# Altium integrated library Wurth_Elektronik_Passive_rev16a.IntLib: 1143 symbols (part 2 of 28)
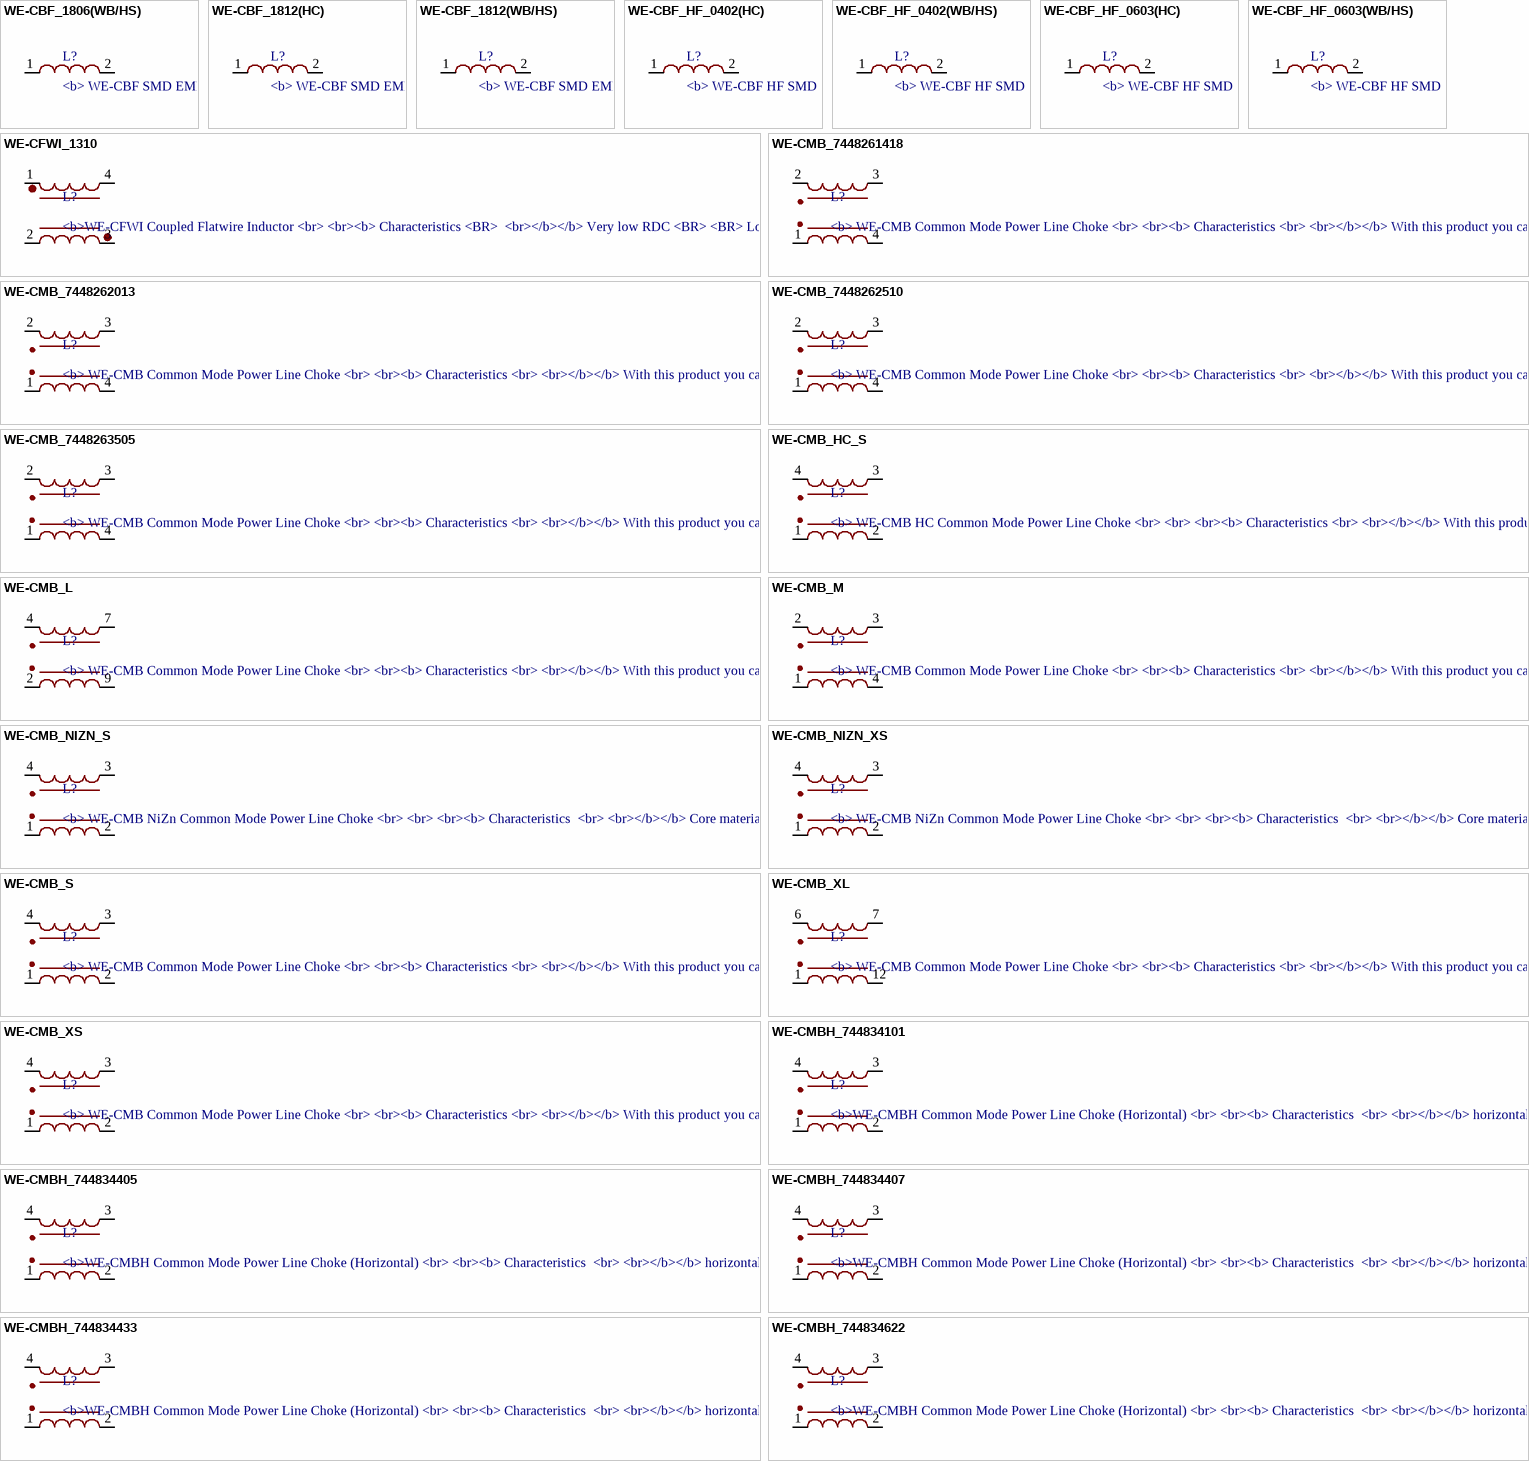
[diagram p59: symbols WE-CBF_1806(WB/HS) to WE-CMBH_744834622]

## WE-CBF_1806(WB/HS)
designator L?, comment <b> WE-CBF SMD EMI Suppression Ferrite Bead / <br> / <br> Characteristics / <br> / <br></b> Reliable Ni-Sn electrodes / <br> / <br> High rated current up to 6 A / <br> / <br> Operating temperature: –55 ºC to +125 ºC / <br> / <br><b> Applications / <br> / <br></b> Perfect as data lined filter and for uncoupling of distribution voltage / <br> / <br><b>Variant abbreviation</b><br> / WB means WIDE BAND<br> / HS means HIGH SPEED<br> / HC means HIGH CURRENT<br> / <br><a href="http://katalog.we-online.de/media/images/eisos/FeCBF_pf2.jpg" title="Enlarge picture"> / <img src="http://katalog.we-online.de/media/thumbs2/eisos/thb_FeCBF_pf2.jpg" width="320"></a><p> / Details see: <a href="http://katalog.we-online.de/en/pbs/WE-CBF">http://katalog.we-online.de/en/pbs/WE-CBF</a><p> / Updated on 2014-06-19<br> / 2014 (C) Wurth Elektronik
footprint WE-CBF_1806(W=5.5)
pins: 1, 2

## WE-CBF_1812(HC)
designator L?, comment <b> WE-CBF SMD EMI Suppression Ferrite Bead / <br> / <br> Characteristics / <br> / <br></b> Reliable Ni-Sn electrodes / <br> / <br> High rated current up to 6 A / <br> / <br> Operating temperature: –55 ºC to +125 ºC / <br> / <br><b> Applications / <br> / <br></b> Perfect as data lined filter and for uncoupling of distribution voltage / <br> / <br><b>Variant abbreviation</b><br> / WB means WIDE BAND<br> / HS means HIGH SPEED<br> / HC means HIGH CURRENT<br> / <br><a href="http://katalog.we-online.de/media/images/eisos/FeCBF_pf2.jpg" title="Enlarge picture"> / <img src="http://katalog.we-online.de/media/thumbs2/eisos/thb_FeCBF_pf2.jpg" width="320"></a><p> / Details see: <a href="http://katalog.we-online.de/en/pbs/WE-CBF">http://katalog.we-online.de/en/pbs/WE-CBF</a><p> / Updated on 2014-06-19<br> / 2014 (C) Wurth Elektronik
footprint WE-CBF_1812(W=7.3)
pins: 1, 2

## WE-CBF_1812(WB/HS)
designator L?, comment <b> WE-CBF SMD EMI Suppression Ferrite Bead / <br> / <br> Characteristics / <br> / <br></b> Reliable Ni-Sn electrodes / <br> / <br> High rated current up to 6 A / <br> / <br> Operating temperature: –55 ºC to +125 ºC / <br> / <br><b> Applications / <br> / <br></b> Perfect as data lined filter and for uncoupling of distribution voltage / <br> / <br><b>Variant abbreviation</b><br> / WB means WIDE BAND<br> / HS means HIGH SPEED<br> / HC means HIGH CURRENT<br> / <br><a href="http://katalog.we-online.de/media/images/eisos/FeCBF_pf2.jpg" title="Enlarge picture"> / <img src="http://katalog.we-online.de/media/thumbs2/eisos/thb_FeCBF_pf2.jpg" width="320"></a><p> / Details see: <a href="http://katalog.we-online.de/en/pbs/WE-CBF">http://katalog.we-online.de/en/pbs/WE-CBF</a><p> / Updated on 2014-06-19<br> / 2014 (C) Wurth Elektronik
footprint WE-CBF_1812(W=6.3)
pins: 1, 2

## WE-CBF_HF_0402(HC)
designator L?, comment <b> WE-CBF HF SMD EMI Suppression Ferrite Bead (High Frequency) / <br> / <br><b> Characteristics / <br></b></b> Available in 3 types / <br> Modified internal layout increases the effective suppression range / <br> The impedance at 1 GHz are at least 3 times higher compared to the WE-CBF product family / <br> Operating temperature: –55 °C to +125 °C / <br> / <br><b> Applications / <br></b> Especially for the suppression of signal lines in the high frequency range / <br> For fast data lines: CPU, highspeed bus systems, HDD / <br> / <br> / <b>Variant abbreviation</b><br> / WB means WIDE BAND<br> / HS means HIGH SPEED<br> / HC means HIGH CURRENT<br> / <br> / <br><a href="http://katalog.we-online.de/media/images/eisos/FeCBF_pf2.jpg" title="Enlarge picture"> / <img src="http://katalog.we-online.de/media/images/eisos/FeCBF_pf2.jpg" width="320"></a><p> / Details see: <a href="http://katalog.we-online.de/en/pbs/WE-CBF_HF?">http://katalog.we-online.de/en/pbs/WE-CBF_HF?</a><p> / Updated on 2015-04-24<br> / 2014 (C) Wurth Elektronik
footprint WE-CBF_HF_0402(W=2.2)
pins: 1, 2

## WE-CBF_HF_0402(WB/HS)
designator L?, comment <b> WE-CBF HF SMD EMI Suppression Ferrite Bead (High Frequency) / <br> / <br><b> Characteristics / <br></b></b> Available in 3 types / <br> Modified internal layout increases the effective suppression range / <br> The impedance at 1 GHz are at least 3 times higher compared to the WE-CBF product family / <br> Operating temperature: –55 °C to +125 °C / <br> / <br><b> Applications / <br></b> Especially for the suppression of signal lines in the high frequency range / <br> For fast data lines: CPU, highspeed bus systems, HDD / <br> / <br> / <b>Variant abbreviation</b><br> / WB means WIDE BAND<br> / HS means HIGH SPEED<br> / HC means HIGH CURRENT<br> / <br> / <br><a href="http://katalog.we-online.de/media/images/eisos/FeCBF_pf2.jpg" title="Enlarge picture"> / <img src="http://katalog.we-online.de/media/images/eisos/FeCBF_pf2.jpg" width="320"></a><p> / Details see: <a href="http://katalog.we-online.de/en/pbs/WE-CBF_HF?">http://katalog.we-online.de/en/pbs/WE-CBF_HF?</a><p> / Updated on 2015-04-24<br> / 2014 (C) Wurth Elektronik
footprint WE-CBF_HF_0402(W=1.5)
pins: 1, 2

## WE-CBF_HF_0603(HC)
designator L?, comment <b> WE-CBF HF SMD EMI Suppression Ferrite Bead (High Frequency) / <br> / <br><b> Characteristics / <br></b></b> Available in 3 types / <br> Modified internal layout increases the effective suppression range / <br> The impedance at 1 GHz are at least 3 times higher compared to the WE-CBF product family / <br> Operating temperature: –55 °C to +125 °C / <br> / <br><b> Applications / <br></b> Especially for the suppression of signal lines in the high frequency range / <br> For fast data lines: CPU, highspeed bus systems, HDD / <br> / <br> / <b>Variant abbreviation</b><br> / WB means WIDE BAND<br> / HS means HIGH SPEED<br> / HC means HIGH CURRENT<br> / <br> / <br><a href="http://katalog.we-online.de/media/images/eisos/FeCBF_pf2.jpg" title="Enlarge picture"> / <img src="http://katalog.we-online.de/media/images/eisos/FeCBF_pf2.jpg" width="320"></a><p> / Details see: <a href="http://katalog.we-online.de/en/pbs/WE-CBF_HF?">http://katalog.we-online.de/en/pbs/WE-CBF_HF?</a><p> / Updated on 2015-04-24<br> / 2014 (C) Wurth Elektronik
footprint WE-CBF_HF_0603(W=2.6)
pins: 1, 2

## WE-CBF_HF_0603(WB/HS)
designator L?, comment <b> WE-CBF HF SMD EMI Suppression Ferrite Bead (High Frequency) / <br> / <br><b> Characteristics / <br></b></b> Available in 3 types / <br> Modified internal layout increases the effective suppression range / <br> The impedance at 1 GHz are at least 3 times higher compared to the WE-CBF product family / <br> Operating temperature: –55 °C to +125 °C / <br> / <br><b> Applications / <br></b> Especially for the suppression of signal lines in the high frequency range / <br> For fast data lines: CPU, highspeed bus systems, HDD / <br> / <br> / <b>Variant abbreviation</b><br> / WB means WIDE BAND<br> / HS means HIGH SPEED<br> / HC means HIGH CURRENT<br> / <br> / <br><a href="http://katalog.we-online.de/media/images/eisos/FeCBF_pf2.jpg" title="Enlarge picture"> / <img src="http://katalog.we-online.de/media/images/eisos/FeCBF_pf2.jpg" width="320"></a><p> / Details see: <a href="http://katalog.we-online.de/en/pbs/WE-CBF_HF?">http://katalog.we-online.de/en/pbs/WE-CBF_HF?</a><p> / Updated on 2015-04-24<br> / 2014 (C) Wurth Elektronik
footprint WE-CBF_HF_0603(W=2.2)
pins: 1, 2

## WE-CFWI_1310
designator L?, comment <b>WE-CFWI Coupled Flatwire Inductor / <br> / <br><b> Characteristics / <BR> / <br></b></b> Very low RDC / <BR> / <BR> Low inductance drift over temperature / <BR> / <BR> Operating temperature: –40 °C up to +150 °C / <BR> / <BR> Coupled inductor with two identical windings / <BR> / <BR> More variants due to parallel and serie connection / <BR> / <br><b> Applications / <BR> / <br></b> High power switching regulators / <BR> / <BR> 1:1 flyback converter / <BR> / <BR> Buck, Boost, Sepic and Cuk Converter / <BR> / <BR> Switching regulators with secondary unregulated output voltage / <BR> / <BR>Battery Cell Charging Balancer / <BR> / <BR> / <br><a href="http://katalog.we-online.de/media/images/eisos/IndCFWI_pf2.jpg" title="Enlarge picture"> / <img src="http://katalog.we-online.de/media/images/eisos/IndCFWI_pf2.jpg" width="320"></a><p> / Details see: <a href="http://katalog.we-online.de/en/pbs/WE-CFWI?">http://katalog.we-online.de/en/pbs/WE-CFWI?</a><p> / updated by  Dan Xu 2014-07-15<br> / 2014 (C) Wurth Elektronik
MANUFACTURER: Würth Elektronik eiSos GmbH; CREATED-BY: Christin Otto; COMPANY-URL: http://we-online.de; CREATED-DATE: August 2013; DATASHEET-URL: http://katalog.we-online.de/de/pbs/WE-CFWI?sid=1d9d32b2a9
footprint WE-CFWI_1310
pins: 1, 2 4, 3, 4 2

## WE-CMB_7448261418
designator L?, comment <b> WE-CMB Common Mode Power Line Choke / <br> / <br><b> Characteristics / <br> / <br></b></b> With this product you can achieve high suppression of asymmetric interferences even at low frequency ranges / <BR> / <BR> Broadband filtering because of low capacitance winding technique / <BR> / <BR> Very compact design / <BR> / <BR> Highest possible current with small sizes / <BR> / <BR> High interference compression asymmetric interference rates also at low frequence range / <BR> / <BR> Custom designs on request / <BR> / <BR> Operating temperature: –40 ºC to +125 ºC / <br> / <BR> / <br><b> Applications / <br> / <br></b> Power electronics / <BR> / <BR> Power line input and output filter / <BR> / <BR> For filtering of devices without a stable ground connection / <BR> / <BR> Radio interference suppression in motors / <BR> / <BR> Suppression of common mode noise / <br> / <br> / <br><a href="http://katalog.we-online.de/media/images/eisos/IndCMB_pf2.jpg"> / <img src="http://katalog.we-online.de/media/images/eisos/IndCMB_pf2.jpg" width="320"></a><p> / Details see: <a href="http://katalog.we-online.de/en/pbs/WE-CMB">http://katalog.we-online.de/en/pbs/WE-CMB?</a><p> / Updated by  Dan Xu 2014-06-30<br> / 2014 (C) Wurth Elektronik
footprint WE-CMB_XXL_7448261418
pins: 1 4, 2 1, 3 2, 4 3

## WE-CMB_7448262013
designator L?, comment <b> WE-CMB Common Mode Power Line Choke / <br> / <br><b> Characteristics / <br> / <br></b></b> With this product you can achieve high suppression of asymmetric interferences even at low frequency ranges / <BR> / <BR> Broadband filtering because of low capacitance winding technique / <BR> / <BR> Very compact design / <BR> / <BR> Highest possible current with small sizes / <BR> / <BR> High interference compression asymmetric interference rates also at low frequence range / <BR> / <BR> Custom designs on request / <BR> / <BR> Operating temperature: –40 ºC to +125 ºC / <br> / <BR> / <br><b> Applications / <br> / <br></b> Power electronics / <BR> / <BR> Power line input and output filter / <BR> / <BR> For filtering of devices without a stable ground connection / <BR> / <BR> Radio interference suppression in motors / <BR> / <BR> Suppression of common mode noise / <br> / <br> / <br><a href="http://katalog.we-online.de/media/images/eisos/IndCMB_pf2.jpg"> / <img src="http://katalog.we-online.de/media/images/eisos/IndCMB_pf2.jpg" width="320"></a><p> / Details see: <a href="http://katalog.we-online.de/en/pbs/WE-CMB">http://katalog.we-online.de/en/pbs/WE-CMB?</a><p> / Updated by  Dan Xu 2014-06-30<br> / 2014 (C) Wurth Elektronik
footprint WE-CMB_XXL_7448262013
pins: 1 4, 2 1, 3 2, 4 3

## WE-CMB_7448262510
designator L?, comment <b> WE-CMB Common Mode Power Line Choke / <br> / <br><b> Characteristics / <br> / <br></b></b> With this product you can achieve high suppression of asymmetric interferences even at low frequency ranges / <BR> / <BR> Broadband filtering because of low capacitance winding technique / <BR> / <BR> Very compact design / <BR> / <BR> Highest possible current with small sizes / <BR> / <BR> High interference compression asymmetric interference rates also at low frequence range / <BR> / <BR> Custom designs on request / <BR> / <BR> Operating temperature: –40 ºC to +125 ºC / <br> / <BR> / <br><b> Applications / <br> / <br></b> Power electronics / <BR> / <BR> Power line input and output filter / <BR> / <BR> For filtering of devices without a stable ground connection / <BR> / <BR> Radio interference suppression in motors / <BR> / <BR> Suppression of common mode noise / <br> / <br> / <br><a href="http://katalog.we-online.de/media/images/eisos/IndCMB_pf2.jpg"> / <img src="http://katalog.we-online.de/media/images/eisos/IndCMB_pf2.jpg" width="320"></a><p> / Details see: <a href="http://katalog.we-online.de/en/pbs/WE-CMB">http://katalog.we-online.de/en/pbs/WE-CMB?</a><p> / Updated by  Dan Xu 2014-06-30<br> / 2014 (C) Wurth Elektronik
footprint WE-CMB_XXL_7448262510
pins: 1 4, 2 1, 3 2, 4 3

## WE-CMB_7448263505
designator L?, comment <b> WE-CMB Common Mode Power Line Choke / <br> / <br><b> Characteristics / <br> / <br></b></b> With this product you can achieve high suppression of asymmetric interferences even at low frequency ranges / <BR> / <BR> Broadband filtering because of low capacitance winding technique / <BR> / <BR> Very compact design / <BR> / <BR> Highest possible current with small sizes / <BR> / <BR> High interference compression asymmetric interference rates also at low frequence range / <BR> / <BR> Custom designs on request / <BR> / <BR> Operating temperature: –40 ºC to +125 ºC / <br> / <BR> / <br><b> Applications / <br> / <br></b> Power electronics / <BR> / <BR> Power line input and output filter / <BR> / <BR> For filtering of devices without a stable ground connection / <BR> / <BR> Radio interference suppression in motors / <BR> / <BR> Suppression of common mode noise / <br> / <br> / <br><a href="http://katalog.we-online.de/media/images/eisos/IndCMB_pf2.jpg"> / <img src="http://katalog.we-online.de/media/images/eisos/IndCMB_pf2.jpg" width="320"></a><p> / Details see: <a href="http://katalog.we-online.de/en/pbs/WE-CMB">http://katalog.we-online.de/en/pbs/WE-CMB?</a><p> / Updated by  Dan Xu 2014-06-30<br> / 2014 (C) Wurth Elektronik
footprint WE-CMB_XXL_7448263505
pins: 1 4, 2 1, 3 2, 4 3

## WE-CMB_HC_S
designator L?, comment <b> WE-CMB HC Common Mode Power Line Choke / <br> / <br> / <br><b> Characteristics / <br> / <br></b></b> With this product you can achieve high suppression of asymmetric interferences even at low frequency ranges / <br> / <br>Broadband screening because of anti capacitance winding technique / <br> / <br> Very compact design / <br> / <br> Highest possible current with small sizes / <br> / <br>  Operating temperature: –40 ºC to +125 ºC / <br> / <br> Custom designs on request / <br> / <br> / <br><b> Applications / <br> / <br></b> Power electronics / <br> / <br> Power line in- and output filter / <br> / <br> For filtering of devices without a stable ground connection / <br> / <br> Radio interference suppression in motors / <br> / <br> / <br><a href="http://katalog.we-online.de/media/images/eisos/IndCMBHC_pf2.jpg"> / <img src="http://katalog.we-online.de/media/images/eisos/IndCMBHC_pf2.jpg" width="320"></a><p> / Details see: <a href="http://katalog.we-online.de/en/pbs/WE-CMB_HC">http://katalog.we-online.de/en/pbs/WE-CMB_HC?</a><p> / Updated by  Dan Xu 2014-06-23<br> / 2014 (C) Wurth Elektronik
footprint WE-CMB_HC_S
pins: 1 4, 2 3, 3 2, 4 1

## WE-CMB_L
designator L?, comment <b> WE-CMB Common Mode Power Line Choke / <br> / <br><b> Characteristics / <br> / <br></b></b> With this product you can achieve high suppression of asymmetric interferences even at low frequency ranges / <BR> / <BR> Broadband filtering because of low capacitance winding technique / <BR> / <BR> Very compact design / <BR> / <BR> Highest possible current with small sizes / <BR> / <BR> High interference compression asymmetric interference rates also at low frequence range / <BR> / <BR> Custom designs on request / <BR> / <BR> Operating temperature: –40 ºC to +125 ºC / <br> / <BR> / <br><b> Applications / <br> / <br></b> Power electronics / <BR> / <BR> Power line input and output filter / <BR> / <BR> For filtering of devices without a stable ground connection / <BR> / <BR> Radio interference suppression in motors / <BR> / <BR> Suppression of common mode noise / <br> / <br> / <br><a href="http://katalog.we-online.de/media/images/eisos/IndCMB_pf2.jpg"> / <img src="http://katalog.we-online.de/media/images/eisos/IndCMB_pf2.jpg" width="320"></a><p> / Details see: <a href="http://katalog.we-online.de/en/pbs/WE-CMB">http://katalog.we-online.de/en/pbs/WE-CMB?</a><p> / Updated by  Dan Xu 2014-06-30<br> / 2014 (C) Wurth Elektronik
footprint WE-CMB_L
pins: 2 4, 4 1, 7 2, 9 3

## WE-CMB_M
designator L?, comment <b> WE-CMB Common Mode Power Line Choke / <br> / <br><b> Characteristics / <br> / <br></b></b> With this product you can achieve high suppression of asymmetric interferences even at low frequency ranges / <BR> / <BR> Broadband filtering because of low capacitance winding technique / <BR> / <BR> Very compact design / <BR> / <BR> Highest possible current with small sizes / <BR> / <BR> High interference compression asymmetric interference rates also at low frequence range / <BR> / <BR> Custom designs on request / <BR> / <BR> Operating temperature: –40 ºC to +125 ºC / <br> / <BR> / <br><b> Applications / <br> / <br></b> Power electronics / <BR> / <BR> Power line input and output filter / <BR> / <BR> For filtering of devices without a stable ground connection / <BR> / <BR> Radio interference suppression in motors / <BR> / <BR> Suppression of common mode noise / <br> / <br> / <br><a href="http://katalog.we-online.de/media/images/eisos/IndCMB_pf2.jpg"> / <img src="http://katalog.we-online.de/media/images/eisos/IndCMB_pf2.jpg" width="320"></a><p> / Details see: <a href="http://katalog.we-online.de/en/pbs/WE-CMB">http://katalog.we-online.de/en/pbs/WE-CMB?</a><p> / Updated by  Dan Xu 2014-06-30<br> / 2014 (C) Wurth Elektronik
footprint WE-CMB_M
pins: 1 4, 2 1, 3 2, 4 3

## WE-CMB_NIZN_S
designator L?, comment <b> WE-CMB NiZn Common Mode Power Line Choke / <br> / <br> / <br><b> Characteristics / <br> / <br></b></b> Core material: Nickel-Zinc / <br> / <br> High suppression rates of asymmetric interference at high and medium frequencies / <br> / <br> Compact size / <br> / <br> High interference stability against RF interference and burst signals / <br> / <br> Noise suppression up to 300 MHz / <br> / <br>  Operating temperature: –40 ºC to +125 ºC / <br> / <br> Custom designs on request / <br> / <br> / <br><b> Applications / <br> / <br></b> Power electronics / <br> / <br> Power line in- and output filter / <br> / <br> Optimized for burst signals / <br> / <br> / <br><a href="http://katalog.we-online.de/media/images/eisos/IndCMB_NiZn_pf2.jpg"> / <img src="http://katalog.we-online.de/media/images/eisos/IndCMB_NiZn_pf2.jpg" width="320"></a><p> / Details see: <a href="http://katalog.we-online.de/en/pbs/WE-CMB_NiZn">hthttp://katalog.we-online.de/en/pbs/WE-CMB_NiZn</a><p> / Updated by  Dan Xu 2014-06-30<br> / 2014 (C) Wurth Elektronik
footprint WE-CMB_NIZN_S
pins: 1 4, 2 3, 3 2, 4 1

## WE-CMB_NIZN_XS
designator L?, comment <b> WE-CMB NiZn Common Mode Power Line Choke / <br> / <br> / <br><b> Characteristics / <br> / <br></b></b> Core material: Nickel-Zinc / <br> / <br> High suppression rates of asymmetric interference at high and medium frequencies / <br> / <br> Compact size / <br> / <br> High interference stability against RF interference and burst signals / <br> / <br> Noise suppression up to 300 MHz / <br> / <br>  Operating temperature: –40 ºC to +125 ºC / <br> / <br> Custom designs on request / <br> / <br> / <br><b> Applications / <br> / <br></b> Power electronics / <br> / <br> Power line in- and output filter / <br> / <br> Optimized for burst signals / <br> / <br> / <br><a href="http://katalog.we-online.de/media/images/eisos/IndCMB_NiZn_pf2.jpg"> / <img src="http://katalog.we-online.de/media/images/eisos/IndCMB_NiZn_pf2.jpg" width="320"></a><p> / Details see: <a href="http://katalog.we-online.de/en/pbs/WE-CMB_NiZn">hthttp://katalog.we-online.de/en/pbs/WE-CMB_NiZn</a><p> / Updated by  Dan Xu 2014-06-30<br> / 2014 (C) Wurth Elektronik
footprint WE-CMB_NIZN_XS
pins: 1 4, 2 3, 3 2, 4 1

## WE-CMB_S
designator L?, comment <b> WE-CMB Common Mode Power Line Choke / <br> / <br><b> Characteristics / <br> / <br></b></b> With this product you can achieve high suppression of asymmetric interferences even at low frequency ranges / <BR> / <BR> Broadband filtering because of low capacitance winding technique / <BR> / <BR> Very compact design / <BR> / <BR> Highest possible current with small sizes / <BR> / <BR> High interference compression asymmetric interference rates also at low frequence range / <BR> / <BR> Custom designs on request / <BR> / <BR> Operating temperature: –40 ºC to +125 ºC / <br> / <BR> / <br><b> Applications / <br> / <br></b> Power electronics / <BR> / <BR> Power line input and output filter / <BR> / <BR> For filtering of devices without a stable ground connection / <BR> / <BR> Radio interference suppression in motors / <BR> / <BR> Suppression of common mode noise / <br> / <br> / <br><a href="http://katalog.we-online.de/media/images/eisos/IndCMB_pf2.jpg"> / <img src="http://katalog.we-online.de/media/images/eisos/IndCMB_pf2.jpg" width="320"></a><p> / Details see: <a href="http://katalog.we-online.de/en/pbs/WE-CMB">http://katalog.we-online.de/en/pbs/WE-CMB?</a><p> / Updated by  Dan Xu 2014-06-30<br> / 2014 (C) Wurth Elektronik
footprint WE-CMB_S
pins: 1 4, 2 3, 3 2, 4 1

## WE-CMB_XL
designator L?, comment <b> WE-CMB Common Mode Power Line Choke / <br> / <br><b> Characteristics / <br> / <br></b></b> With this product you can achieve high suppression of asymmetric interferences even at low frequency ranges / <BR> / <BR> Broadband filtering because of low capacitance winding technique / <BR> / <BR> Very compact design / <BR> / <BR> Highest possible current with small sizes / <BR> / <BR> High interference compression asymmetric interference rates also at low frequence range / <BR> / <BR> Custom designs on request / <BR> / <BR> Operating temperature: –40 ºC to +125 ºC / <br> / <BR> / <br><b> Applications / <br> / <br></b> Power electronics / <BR> / <BR> Power line input and output filter / <BR> / <BR> For filtering of devices without a stable ground connection / <BR> / <BR> Radio interference suppression in motors / <BR> / <BR> Suppression of common mode noise / <br> / <br> / <br><a href="http://katalog.we-online.de/media/images/eisos/IndCMB_pf2.jpg"> / <img src="http://katalog.we-online.de/media/images/eisos/IndCMB_pf2.jpg" width="320"></a><p> / Details see: <a href="http://katalog.we-online.de/en/pbs/WE-CMB">http://katalog.we-online.de/en/pbs/WE-CMB?</a><p> / Updated by  Dan Xu 2014-06-30<br> / 2014 (C) Wurth Elektronik
footprint WE-CMB_XL
pins: 1 4, 6 1, 7 2, 12 3

## WE-CMB_XS
designator L?, comment <b> WE-CMB Common Mode Power Line Choke / <br> / <br><b> Characteristics / <br> / <br></b></b> With this product you can achieve high suppression of asymmetric interferences even at low frequency ranges / <BR> / <BR> Broadband filtering because of low capacitance winding technique / <BR> / <BR> Very compact design / <BR> / <BR> Highest possible current with small sizes / <BR> / <BR> High interference compression asymmetric interference rates also at low frequence range / <BR> / <BR> Custom designs on request / <BR> / <BR> Operating temperature: –40 ºC to +125 ºC / <br> / <BR> / <br><b> Applications / <br> / <br></b> Power electronics / <BR> / <BR> Power line input and output filter / <BR> / <BR> For filtering of devices without a stable ground connection / <BR> / <BR> Radio interference suppression in motors / <BR> / <BR> Suppression of common mode noise / <br> / <br> / <br><a href="http://katalog.we-online.de/media/images/eisos/IndCMB_pf2.jpg"> / <img src="http://katalog.we-online.de/media/images/eisos/IndCMB_pf2.jpg" width="320"></a><p> / Details see: <a href="http://katalog.we-online.de/en/pbs/WE-CMB">http://katalog.we-online.de/en/pbs/WE-CMB?</a><p> / Updated by  Dan Xu 2014-06-30<br> / 2014 (C) Wurth Elektronik
footprint WE-CMB_XS
pins: 1 4, 2 3, 3 2, 4 1

## WE-CMBH_744834101
designator L?, comment <b>WE-CMBH Common Mode Power Line Choke (Horizontal) / <br> / <br><b> Characteristics / <br> / <br></b></b> horizontal design for compact housings / <br> / <br> suppression even at low frequency ranges / <br> / <br> broadband screening because of low capacitance winding technique / <br> / <br> highest possible current with small sizes / <br> / <br> customer specific designs on request / <br> / <br> operating temperature: -40°C to +125°C / <br> / <br><b> Applications / <br> / <br></b> Power electronics / <br> / <br>Power line in- and output filter / <br> / <br>Radio interference suppression in motors / <br> / <br>suppression for common mode noise / <br> / <br> / <br><a href="http://katalog.we-online.de/media/images/eisos/IndCMBH_pf2.jpg" title="Enlarge picture"> / <img src="http://katalog.we-online.de/media/images/eisos/IndCMBH_pf2.jpg" width="320"></a><p> / Details see: <a href="http://katalog.we-online.de/en/pbs/WE-CMBH?">http://katalog.we-online.de/en/pbs/WE-CMBH?</a><p> / Updated by  Dan Xu 2014-07-15<br> / 2014 (C) Wurth Elektronik
footprint WE-CMBH_1.5MM
pins: 1 4, 2 3, 3 2, 4 1

## WE-CMBH_744834405
designator L?, comment <b>WE-CMBH Common Mode Power Line Choke (Horizontal) / <br> / <br><b> Characteristics / <br> / <br></b></b> horizontal design for compact housings / <br> / <br> suppression even at low frequency ranges / <br> / <br> broadband screening because of low capacitance winding technique / <br> / <br> highest possible current with small sizes / <br> / <br> customer specific designs on request / <br> / <br> operating temperature: -40°C to +125°C / <br> / <br><b> Applications / <br> / <br></b> Power electronics / <br> / <br>Power line in- and output filter / <br> / <br>Radio interference suppression in motors / <br> / <br>suppression for common mode noise / <br> / <br> / <br><a href="http://katalog.we-online.de/media/images/eisos/IndCMBH_pf2.jpg" title="Enlarge picture"> / <img src="http://katalog.we-online.de/media/images/eisos/IndCMBH_pf2.jpg" width="320"></a><p> / Details see: <a href="http://katalog.we-online.de/en/pbs/WE-CMBH?">http://katalog.we-online.de/en/pbs/WE-CMBH?</a><p> / Updated by  Dan Xu 2014-07-15<br> / 2014 (C) Wurth Elektronik
footprint WE-CMBH_1.2MM
pins: 1 4, 2 3, 3 2, 4 1

## WE-CMBH_744834407
designator L?, comment <b>WE-CMBH Common Mode Power Line Choke (Horizontal) / <br> / <br><b> Characteristics / <br> / <br></b></b> horizontal design for compact housings / <br> / <br> suppression even at low frequency ranges / <br> / <br> broadband screening because of low capacitance winding technique / <br> / <br> highest possible current with small sizes / <br> / <br> customer specific designs on request / <br> / <br> operating temperature: -40°C to +125°C / <br> / <br><b> Applications / <br> / <br></b> Power electronics / <br> / <br>Power line in- and output filter / <br> / <br>Radio interference suppression in motors / <br> / <br>suppression for common mode noise / <br> / <br> / <br><a href="http://katalog.we-online.de/media/images/eisos/IndCMBH_pf2.jpg" title="Enlarge picture"> / <img src="http://katalog.we-online.de/media/images/eisos/IndCMBH_pf2.jpg" width="320"></a><p> / Details see: <a href="http://katalog.we-online.de/en/pbs/WE-CMBH?">http://katalog.we-online.de/en/pbs/WE-CMBH?</a><p> / Updated by  Dan Xu 2014-07-15<br> / 2014 (C) Wurth Elektronik
footprint WE-CMBH_1.2MM
pins: 1 4, 2 3, 3 2, 4 1

## WE-CMBH_744834433
designator L?, comment <b>WE-CMBH Common Mode Power Line Choke (Horizontal) / <br> / <br><b> Characteristics / <br> / <br></b></b> horizontal design for compact housings / <br> / <br> suppression even at low frequency ranges / <br> / <br> broadband screening because of low capacitance winding technique / <br> / <br> highest possible current with small sizes / <br> / <br> customer specific designs on request / <br> / <br> operating temperature: -40°C to +125°C / <br> / <br><b> Applications / <br> / <br></b> Power electronics / <br> / <br>Power line in- and output filter / <br> / <br>Radio interference suppression in motors / <br> / <br>suppression for common mode noise / <br> / <br> / <br><a href="http://katalog.we-online.de/media/images/eisos/IndCMBH_pf2.jpg" title="Enlarge picture"> / <img src="http://katalog.we-online.de/media/images/eisos/IndCMBH_pf2.jpg" width="320"></a><p> / Details see: <a href="http://katalog.we-online.de/en/pbs/WE-CMBH?">http://katalog.we-online.de/en/pbs/WE-CMBH?</a><p> / Updated by  Dan Xu 2014-07-15<br> / 2014 (C) Wurth Elektronik
footprint WE-CMBH_1.2MM
pins: 1 4, 2 3, 3 2, 4 1

## WE-CMBH_744834622
designator L?, comment <b>WE-CMBH Common Mode Power Line Choke (Horizontal) / <br> / <br><b> Characteristics / <br> / <br></b></b> horizontal design for compact housings / <br> / <br> suppression even at low frequency ranges / <br> / <br> broadband screening because of low capacitance winding technique / <br> / <br> highest possible current with small sizes / <br> / <br> customer specific designs on request / <br> / <br> operating temperature: -40°C to +125°C / <br> / <br><b> Applications / <br> / <br></b> Power electronics / <br> / <br>Power line in- and output filter / <br> / <br>Radio interference suppression in motors / <br> / <br>suppression for common mode noise / <br> / <br> / <br><a href="http://katalog.we-online.de/media/images/eisos/IndCMBH_pf2.jpg" title="Enlarge picture"> / <img src="http://katalog.we-online.de/media/images/eisos/IndCMBH_pf2.jpg" width="320"></a><p> / Details see: <a href="http://katalog.we-online.de/en/pbs/WE-CMBH?">http://katalog.we-online.de/en/pbs/WE-CMBH?</a><p> / Updated by  Dan Xu 2014-07-15<br> / 2014 (C) Wurth Elektronik
footprint WE-CMBH_1.5MM
pins: 1 4, 2 3, 3 2, 4 1

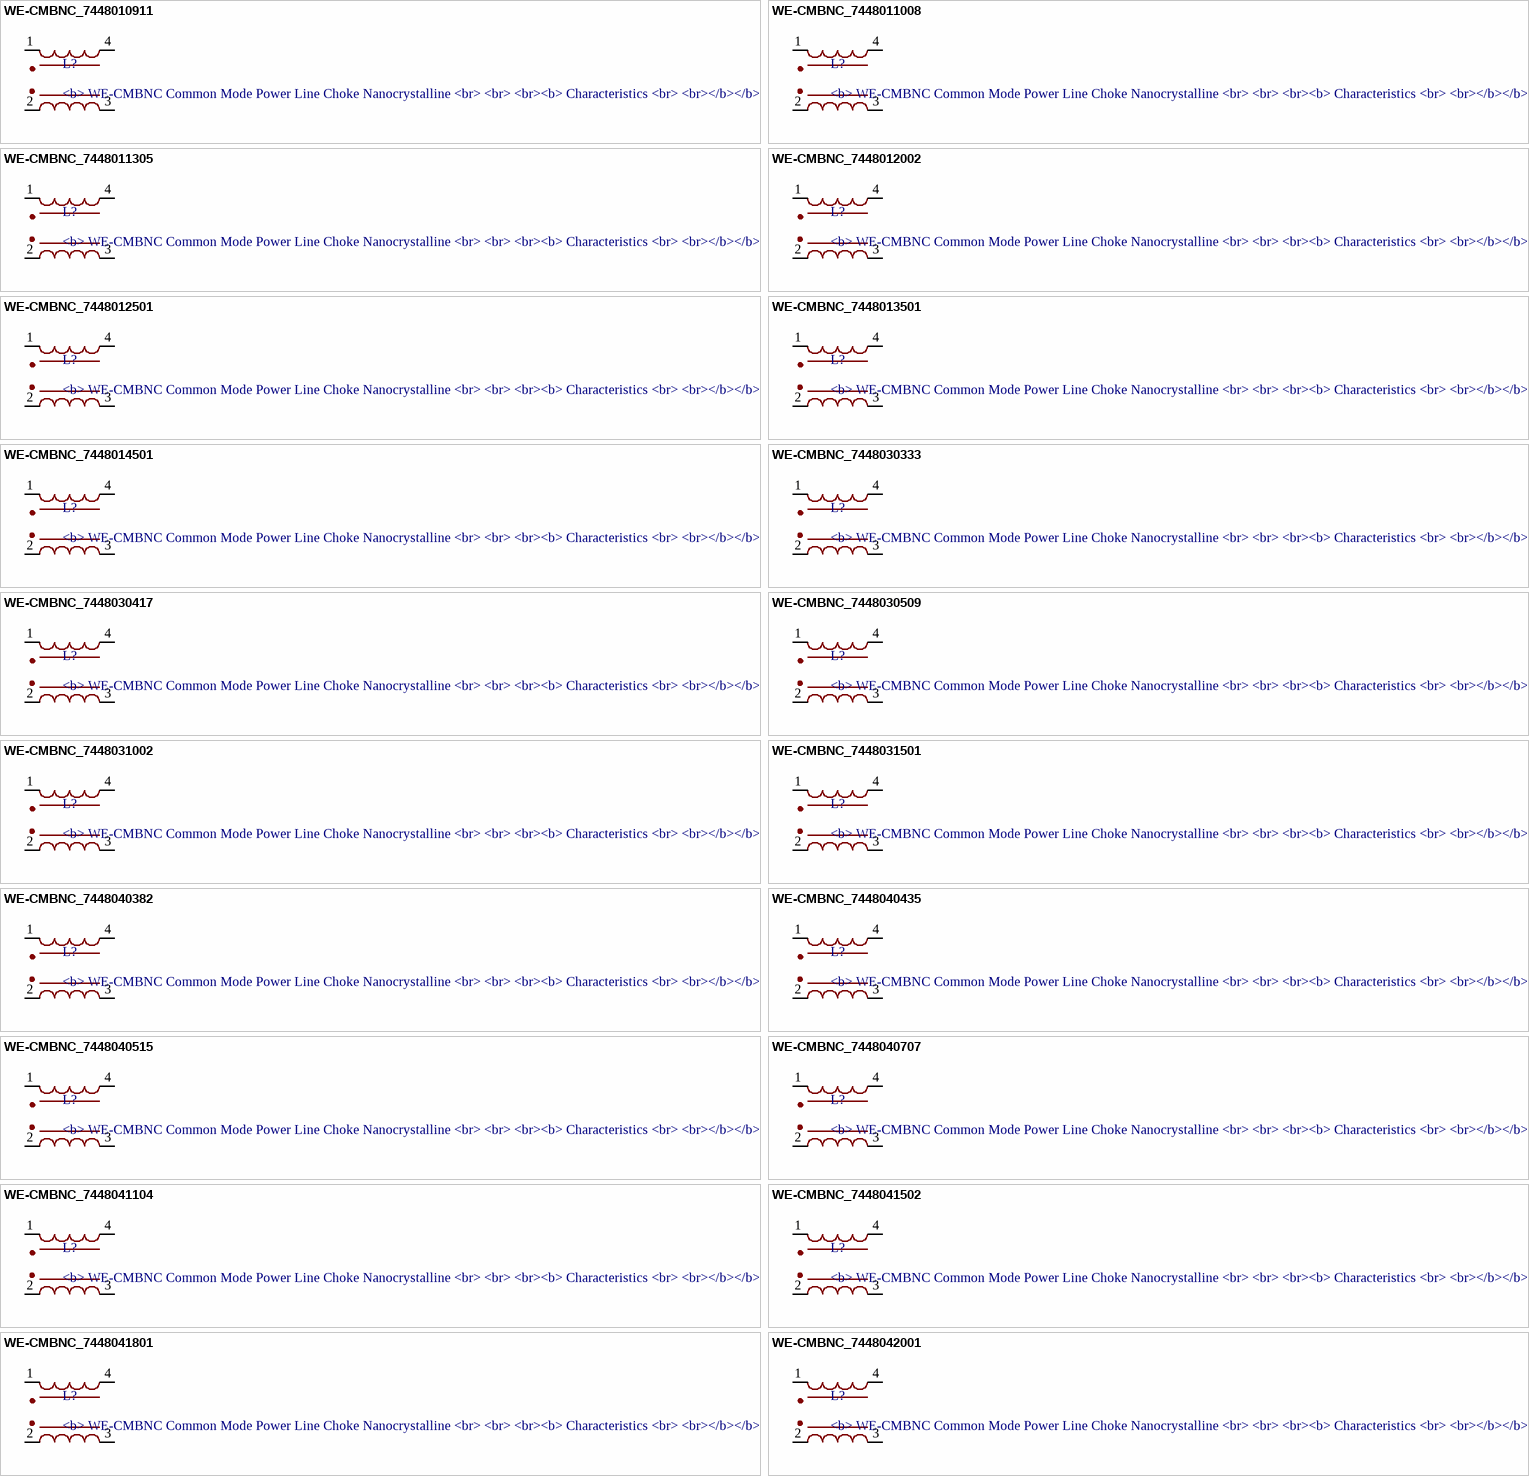
[diagram p2: symbols WE-CMBNC_7448010911 to WE-CMBNC_7448042001]

## WE-CMBNC_7448010911
designator L?, comment <b> WE-CMBNC Common Mode Power Line Choke Nanocrystalline / <br> / <br> / <br><b> Characteristics / <br> / <br></b></b> Very high permeability nanocrystalline core material / <br> / <br> Improved isolation through plastic case and winding spacer / <br> / <br>  High and stable inductance values at high temperatures / <br> / <br> High rated currents / <br> / <br> Broadband suppression / <br> / <br>  Small size / <br> / <br> Frequency range: 1 kHz-300 MHz / <br> / <br> Operating temperature: -40°C to +125°C / <br> / <br> / <br><b> Applications / <br> / <br></b> Power electronics / <br> / <br>  Power line in- and output filter / <br> / <br>  Radio interference suppression in motors / <br> / <br> Suppression for common mode noise / <br> / <br> / <br> / <br><a href="http://katalog.we-online.de/media/images/eisos/IndCMBNC_pf2.jpg" title="Enlarge picture"> / <img src="http://katalog.we-online.de/media/thumbs2/eisos/thb_IndCMBNC_pf2.jpg" width="320"></a><p> / Details see: <a href="http://katalog.we-online.de/en/pbs/WE-CMBNC/">http://katalog.we-online.de/en/pbs/WE-CMBNC/</a><p> / Updated by  Dan Xu 2014-06-23<br> / 2014 (C) Wurth Elektronik
footprint WE-CMBNC_XS_744801XXXX
pins: 1, 2 4, 3, 4 2

## WE-CMBNC_7448011008
designator L?, comment <b> WE-CMBNC Common Mode Power Line Choke Nanocrystalline / <br> / <br> / <br><b> Characteristics / <br> / <br></b></b> Very high permeability nanocrystalline core material / <br> / <br> Improved isolation through plastic case and winding spacer / <br> / <br>  High and stable inductance values at high temperatures / <br> / <br> High rated currents / <br> / <br> Broadband suppression / <br> / <br>  Small size / <br> / <br> Frequency range: 1 kHz-300 MHz / <br> / <br> Operating temperature: -40°C to +125°C / <br> / <br> / <br><b> Applications / <br> / <br></b> Power electronics / <br> / <br>  Power line in- and output filter / <br> / <br>  Radio interference suppression in motors / <br> / <br> Suppression for common mode noise / <br> / <br> / <br> / <br><a href="http://katalog.we-online.de/media/images/eisos/IndCMBNC_pf2.jpg" title="Enlarge picture"> / <img src="http://katalog.we-online.de/media/thumbs2/eisos/thb_IndCMBNC_pf2.jpg" width="320"></a><p> / Details see: <a href="http://katalog.we-online.de/en/pbs/WE-CMBNC/">http://katalog.we-online.de/en/pbs/WE-CMBNC/</a><p> / Updated by  Dan Xu 2014-06-23<br> / 2014 (C) Wurth Elektronik
footprint WE-CMBNC_XS_744801XXXX
pins: 1, 2 4, 3, 4 2

## WE-CMBNC_7448011305
designator L?, comment <b> WE-CMBNC Common Mode Power Line Choke Nanocrystalline / <br> / <br> / <br><b> Characteristics / <br> / <br></b></b> Very high permeability nanocrystalline core material / <br> / <br> Improved isolation through plastic case and winding spacer / <br> / <br>  High and stable inductance values at high temperatures / <br> / <br> High rated currents / <br> / <br> Broadband suppression / <br> / <br>  Small size / <br> / <br> Frequency range: 1 kHz-300 MHz / <br> / <br> Operating temperature: -40°C to +125°C / <br> / <br> / <br><b> Applications / <br> / <br></b> Power electronics / <br> / <br>  Power line in- and output filter / <br> / <br>  Radio interference suppression in motors / <br> / <br> Suppression for common mode noise / <br> / <br> / <br> / <br><a href="http://katalog.we-online.de/media/images/eisos/IndCMBNC_pf2.jpg" title="Enlarge picture"> / <img src="http://katalog.we-online.de/media/thumbs2/eisos/thb_IndCMBNC_pf2.jpg" width="320"></a><p> / Details see: <a href="http://katalog.we-online.de/en/pbs/WE-CMBNC/">http://katalog.we-online.de/en/pbs/WE-CMBNC/</a><p> / Updated by  Dan Xu 2014-06-23<br> / 2014 (C) Wurth Elektronik
footprint WE-CMBNC_XS_744801XXXX
pins: 1, 2 4, 3, 4 2

## WE-CMBNC_7448012002
designator L?, comment <b> WE-CMBNC Common Mode Power Line Choke Nanocrystalline / <br> / <br> / <br><b> Characteristics / <br> / <br></b></b> Very high permeability nanocrystalline core material / <br> / <br> Improved isolation through plastic case and winding spacer / <br> / <br>  High and stable inductance values at high temperatures / <br> / <br> High rated currents / <br> / <br> Broadband suppression / <br> / <br>  Small size / <br> / <br> Frequency range: 1 kHz-300 MHz / <br> / <br> Operating temperature: -40°C to +125°C / <br> / <br> / <br><b> Applications / <br> / <br></b> Power electronics / <br> / <br>  Power line in- and output filter / <br> / <br>  Radio interference suppression in motors / <br> / <br> Suppression for common mode noise / <br> / <br> / <br> / <br><a href="http://katalog.we-online.de/media/images/eisos/IndCMBNC_pf2.jpg" title="Enlarge picture"> / <img src="http://katalog.we-online.de/media/thumbs2/eisos/thb_IndCMBNC_pf2.jpg" width="320"></a><p> / Details see: <a href="http://katalog.we-online.de/en/pbs/WE-CMBNC/">http://katalog.we-online.de/en/pbs/WE-CMBNC/</a><p> / Updated by  Dan Xu 2014-06-23<br> / 2014 (C) Wurth Elektronik
footprint WE-CMBNC_XS_744801XXXX
pins: 1, 2 4, 3, 4 2

## WE-CMBNC_7448012501
designator L?, comment <b> WE-CMBNC Common Mode Power Line Choke Nanocrystalline / <br> / <br> / <br><b> Characteristics / <br> / <br></b></b> Very high permeability nanocrystalline core material / <br> / <br> Improved isolation through plastic case and winding spacer / <br> / <br>  High and stable inductance values at high temperatures / <br> / <br> High rated currents / <br> / <br> Broadband suppression / <br> / <br>  Small size / <br> / <br> Frequency range: 1 kHz-300 MHz / <br> / <br> Operating temperature: -40°C to +125°C / <br> / <br> / <br><b> Applications / <br> / <br></b> Power electronics / <br> / <br>  Power line in- and output filter / <br> / <br>  Radio interference suppression in motors / <br> / <br> Suppression for common mode noise / <br> / <br> / <br> / <br><a href="http://katalog.we-online.de/media/images/eisos/IndCMBNC_pf2.jpg" title="Enlarge picture"> / <img src="http://katalog.we-online.de/media/thumbs2/eisos/thb_IndCMBNC_pf2.jpg" width="320"></a><p> / Details see: <a href="http://katalog.we-online.de/en/pbs/WE-CMBNC/">http://katalog.we-online.de/en/pbs/WE-CMBNC/</a><p> / Updated by  Dan Xu 2014-06-23<br> / 2014 (C) Wurth Elektronik
footprint WE-CMBNC_XS_744801XXXX
pins: 1, 2 4, 3, 4 2

## WE-CMBNC_7448013501
designator L?, comment <b> WE-CMBNC Common Mode Power Line Choke Nanocrystalline / <br> / <br> / <br><b> Characteristics / <br> / <br></b></b> Very high permeability nanocrystalline core material / <br> / <br> Improved isolation through plastic case and winding spacer / <br> / <br>  High and stable inductance values at high temperatures / <br> / <br> High rated currents / <br> / <br> Broadband suppression / <br> / <br>  Small size / <br> / <br> Frequency range: 1 kHz-300 MHz / <br> / <br> Operating temperature: -40°C to +125°C / <br> / <br> / <br><b> Applications / <br> / <br></b> Power electronics / <br> / <br>  Power line in- and output filter / <br> / <br>  Radio interference suppression in motors / <br> / <br> Suppression for common mode noise / <br> / <br> / <br> / <br><a href="http://katalog.we-online.de/media/images/eisos/IndCMBNC_pf2.jpg" title="Enlarge picture"> / <img src="http://katalog.we-online.de/media/thumbs2/eisos/thb_IndCMBNC_pf2.jpg" width="320"></a><p> / Details see: <a href="http://katalog.we-online.de/en/pbs/WE-CMBNC/">http://katalog.we-online.de/en/pbs/WE-CMBNC/</a><p> / Updated by  Dan Xu 2014-06-23<br> / 2014 (C) Wurth Elektronik
footprint WE-CMBNC_XS_744801XXXX
pins: 1, 2 4, 3, 4 2

## WE-CMBNC_7448014501
designator L?, comment <b> WE-CMBNC Common Mode Power Line Choke Nanocrystalline / <br> / <br> / <br><b> Characteristics / <br> / <br></b></b> Very high permeability nanocrystalline core material / <br> / <br> Improved isolation through plastic case and winding spacer / <br> / <br>  High and stable inductance values at high temperatures / <br> / <br> High rated currents / <br> / <br> Broadband suppression / <br> / <br>  Small size / <br> / <br> Frequency range: 1 kHz-300 MHz / <br> / <br> Operating temperature: -40°C to +125°C / <br> / <br> / <br><b> Applications / <br> / <br></b> Power electronics / <br> / <br>  Power line in- and output filter / <br> / <br>  Radio interference suppression in motors / <br> / <br> Suppression for common mode noise / <br> / <br> / <br> / <br><a href="http://katalog.we-online.de/media/images/eisos/IndCMBNC_pf2.jpg" title="Enlarge picture"> / <img src="http://katalog.we-online.de/media/thumbs2/eisos/thb_IndCMBNC_pf2.jpg" width="320"></a><p> / Details see: <a href="http://katalog.we-online.de/en/pbs/WE-CMBNC/">http://katalog.we-online.de/en/pbs/WE-CMBNC/</a><p> / Updated by  Dan Xu 2014-06-23<br> / 2014 (C) Wurth Elektronik
footprint WE-CMBNC_XS_744801XXXX
pins: 1, 2 4, 3, 4 2

## WE-CMBNC_7448030333
designator L?, comment <b> WE-CMBNC Common Mode Power Line Choke Nanocrystalline / <br> / <br> / <br><b> Characteristics / <br> / <br></b></b> Very high permeability nanocrystalline core material / <br> / <br> Improved isolation through plastic case and winding spacer / <br> / <br>  High and stable inductance values at high temperatures / <br> / <br> High rated currents / <br> / <br> Broadband suppression / <br> / <br>  Small size / <br> / <br> Frequency range: 1 kHz-300 MHz / <br> / <br> Operating temperature: -40°C to +125°C / <br> / <br> / <br><b> Applications / <br> / <br></b> Power electronics / <br> / <br>  Power line in- and output filter / <br> / <br>  Radio interference suppression in motors / <br> / <br> Suppression for common mode noise / <br> / <br> / <br> / <br><a href="http://katalog.we-online.de/media/images/eisos/IndCMBNC_pf2.jpg" title="Enlarge picture"> / <img src="http://katalog.we-online.de/media/thumbs2/eisos/thb_IndCMBNC_pf2.jpg" width="320"></a><p> / Details see: <a href="http://katalog.we-online.de/en/pbs/WE-CMBNC/">http://katalog.we-online.de/en/pbs/WE-CMBNC/</a><p> / Updated by  Dan Xu 2014-06-23<br> / 2014 (C) Wurth Elektronik
footprint WE-CMBNC_M_7448030333
pins: 1, 2 4, 3, 4 2

## WE-CMBNC_7448030417
designator L?, comment <b> WE-CMBNC Common Mode Power Line Choke Nanocrystalline / <br> / <br> / <br><b> Characteristics / <br> / <br></b></b> Very high permeability nanocrystalline core material / <br> / <br> Improved isolation through plastic case and winding spacer / <br> / <br>  High and stable inductance values at high temperatures / <br> / <br> High rated currents / <br> / <br> Broadband suppression / <br> / <br>  Small size / <br> / <br> Frequency range: 1 kHz-300 MHz / <br> / <br> Operating temperature: -40°C to +125°C / <br> / <br> / <br><b> Applications / <br> / <br></b> Power electronics / <br> / <br>  Power line in- and output filter / <br> / <br>  Radio interference suppression in motors / <br> / <br> Suppression for common mode noise / <br> / <br> / <br> / <br><a href="http://katalog.we-online.de/media/images/eisos/IndCMBNC_pf2.jpg" title="Enlarge picture"> / <img src="http://katalog.we-online.de/media/thumbs2/eisos/thb_IndCMBNC_pf2.jpg" width="320"></a><p> / Details see: <a href="http://katalog.we-online.de/en/pbs/WE-CMBNC/">http://katalog.we-online.de/en/pbs/WE-CMBNC/</a><p> / Updated by  Dan Xu 2014-06-23<br> / 2014 (C) Wurth Elektronik
footprint WE-CMBNC_M_7448030417
pins: 1, 2 4, 3, 4 2

## WE-CMBNC_7448030509
designator L?, comment <b> WE-CMBNC Common Mode Power Line Choke Nanocrystalline / <br> / <br> / <br><b> Characteristics / <br> / <br></b></b> Very high permeability nanocrystalline core material / <br> / <br> Improved isolation through plastic case and winding spacer / <br> / <br>  High and stable inductance values at high temperatures / <br> / <br> High rated currents / <br> / <br> Broadband suppression / <br> / <br>  Small size / <br> / <br> Frequency range: 1 kHz-300 MHz / <br> / <br> Operating temperature: -40°C to +125°C / <br> / <br> / <br><b> Applications / <br> / <br></b> Power electronics / <br> / <br>  Power line in- and output filter / <br> / <br>  Radio interference suppression in motors / <br> / <br> Suppression for common mode noise / <br> / <br> / <br> / <br><a href="http://katalog.we-online.de/media/images/eisos/IndCMBNC_pf2.jpg" title="Enlarge picture"> / <img src="http://katalog.we-online.de/media/thumbs2/eisos/thb_IndCMBNC_pf2.jpg" width="320"></a><p> / Details see: <a href="http://katalog.we-online.de/en/pbs/WE-CMBNC/">http://katalog.we-online.de/en/pbs/WE-CMBNC/</a><p> / Updated by  Dan Xu 2014-06-23<br> / 2014 (C) Wurth Elektronik
footprint WE-CMBNC_M_7448030509
pins: 1, 2 4, 3, 4 2

## WE-CMBNC_7448031002
designator L?, comment <b> WE-CMBNC Common Mode Power Line Choke Nanocrystalline / <br> / <br> / <br><b> Characteristics / <br> / <br></b></b> Very high permeability nanocrystalline core material / <br> / <br> Improved isolation through plastic case and winding spacer / <br> / <br>  High and stable inductance values at high temperatures / <br> / <br> High rated currents / <br> / <br> Broadband suppression / <br> / <br>  Small size / <br> / <br> Frequency range: 1 kHz-300 MHz / <br> / <br> Operating temperature: -40°C to +125°C / <br> / <br> / <br><b> Applications / <br> / <br></b> Power electronics / <br> / <br>  Power line in- and output filter / <br> / <br>  Radio interference suppression in motors / <br> / <br> Suppression for common mode noise / <br> / <br> / <br> / <br><a href="http://katalog.we-online.de/media/images/eisos/IndCMBNC_pf2.jpg" title="Enlarge picture"> / <img src="http://katalog.we-online.de/media/thumbs2/eisos/thb_IndCMBNC_pf2.jpg" width="320"></a><p> / Details see: <a href="http://katalog.we-online.de/en/pbs/WE-CMBNC/">http://katalog.we-online.de/en/pbs/WE-CMBNC/</a><p> / Updated by  Dan Xu 2014-06-23<br> / 2014 (C) Wurth Elektronik
footprint WE-CMBNC_M(WITHOUT-PINS)_7448031002
pins: 1, 2 4, 3, 4 2

## WE-CMBNC_7448031501
designator L?, comment <b> WE-CMBNC Common Mode Power Line Choke Nanocrystalline / <br> / <br> / <br><b> Characteristics / <br> / <br></b></b> Very high permeability nanocrystalline core material / <br> / <br> Improved isolation through plastic case and winding spacer / <br> / <br>  High and stable inductance values at high temperatures / <br> / <br> High rated currents / <br> / <br> Broadband suppression / <br> / <br>  Small size / <br> / <br> Frequency range: 1 kHz-300 MHz / <br> / <br> Operating temperature: -40°C to +125°C / <br> / <br> / <br><b> Applications / <br> / <br></b> Power electronics / <br> / <br>  Power line in- and output filter / <br> / <br>  Radio interference suppression in motors / <br> / <br> Suppression for common mode noise / <br> / <br> / <br> / <br><a href="http://katalog.we-online.de/media/images/eisos/IndCMBNC_pf2.jpg" title="Enlarge picture"> / <img src="http://katalog.we-online.de/media/thumbs2/eisos/thb_IndCMBNC_pf2.jpg" width="320"></a><p> / Details see: <a href="http://katalog.we-online.de/en/pbs/WE-CMBNC/">http://katalog.we-online.de/en/pbs/WE-CMBNC/</a><p> / Updated by  Dan Xu 2014-06-23<br> / 2014 (C) Wurth Elektronik
footprint WE-CMBNC_M(WITHOUT-PINS)_7448031501
pins: 1, 2 4, 3, 4 2

## WE-CMBNC_7448040382
designator L?, comment <b> WE-CMBNC Common Mode Power Line Choke Nanocrystalline / <br> / <br> / <br><b> Characteristics / <br> / <br></b></b> Very high permeability nanocrystalline core material / <br> / <br> Improved isolation through plastic case and winding spacer / <br> / <br>  High and stable inductance values at high temperatures / <br> / <br> High rated currents / <br> / <br> Broadband suppression / <br> / <br>  Small size / <br> / <br> Frequency range: 1 kHz-300 MHz / <br> / <br> Operating temperature: -40°C to +125°C / <br> / <br> / <br><b> Applications / <br> / <br></b> Power electronics / <br> / <br>  Power line in- and output filter / <br> / <br>  Radio interference suppression in motors / <br> / <br> Suppression for common mode noise / <br> / <br> / <br> / <br><a href="http://katalog.we-online.de/media/images/eisos/IndCMBNC_pf2.jpg" title="Enlarge picture"> / <img src="http://katalog.we-online.de/media/thumbs2/eisos/thb_IndCMBNC_pf2.jpg" width="320"></a><p> / Details see: <a href="http://katalog.we-online.de/en/pbs/WE-CMBNC/">http://katalog.we-online.de/en/pbs/WE-CMBNC/</a><p> / Updated by  Dan Xu 2014-06-23<br> / 2014 (C) Wurth Elektronik
footprint WE-CMBNC_L_7448040382
pins: 1, 2 4, 3, 4 2

## WE-CMBNC_7448040435
designator L?, comment <b> WE-CMBNC Common Mode Power Line Choke Nanocrystalline / <br> / <br> / <br><b> Characteristics / <br> / <br></b></b> Very high permeability nanocrystalline core material / <br> / <br> Improved isolation through plastic case and winding spacer / <br> / <br>  High and stable inductance values at high temperatures / <br> / <br> High rated currents / <br> / <br> Broadband suppression / <br> / <br>  Small size / <br> / <br> Frequency range: 1 kHz-300 MHz / <br> / <br> Operating temperature: -40°C to +125°C / <br> / <br> / <br><b> Applications / <br> / <br></b> Power electronics / <br> / <br>  Power line in- and output filter / <br> / <br>  Radio interference suppression in motors / <br> / <br> Suppression for common mode noise / <br> / <br> / <br> / <br><a href="http://katalog.we-online.de/media/images/eisos/IndCMBNC_pf2.jpg" title="Enlarge picture"> / <img src="http://katalog.we-online.de/media/thumbs2/eisos/thb_IndCMBNC_pf2.jpg" width="320"></a><p> / Details see: <a href="http://katalog.we-online.de/en/pbs/WE-CMBNC/">http://katalog.we-online.de/en/pbs/WE-CMBNC/</a><p> / Updated by  Dan Xu 2014-06-23<br> / 2014 (C) Wurth Elektronik
footprint WE-CMBNC_L_7448040435
pins: 1, 2 4, 3, 4 2

## WE-CMBNC_7448040515
designator L?, comment <b> WE-CMBNC Common Mode Power Line Choke Nanocrystalline / <br> / <br> / <br><b> Characteristics / <br> / <br></b></b> Very high permeability nanocrystalline core material / <br> / <br> Improved isolation through plastic case and winding spacer / <br> / <br>  High and stable inductance values at high temperatures / <br> / <br> High rated currents / <br> / <br> Broadband suppression / <br> / <br>  Small size / <br> / <br> Frequency range: 1 kHz-300 MHz / <br> / <br> Operating temperature: -40°C to +125°C / <br> / <br> / <br><b> Applications / <br> / <br></b> Power electronics / <br> / <br>  Power line in- and output filter / <br> / <br>  Radio interference suppression in motors / <br> / <br> Suppression for common mode noise / <br> / <br> / <br> / <br><a href="http://katalog.we-online.de/media/images/eisos/IndCMBNC_pf2.jpg" title="Enlarge picture"> / <img src="http://katalog.we-online.de/media/thumbs2/eisos/thb_IndCMBNC_pf2.jpg" width="320"></a><p> / Details see: <a href="http://katalog.we-online.de/en/pbs/WE-CMBNC/">http://katalog.we-online.de/en/pbs/WE-CMBNC/</a><p> / Updated by  Dan Xu 2014-06-23<br> / 2014 (C) Wurth Elektronik
footprint WE-CMBNC_L_7448040515
pins: 1, 2 4, 3, 4 2

## WE-CMBNC_7448040707
designator L?, comment <b> WE-CMBNC Common Mode Power Line Choke Nanocrystalline / <br> / <br> / <br><b> Characteristics / <br> / <br></b></b> Very high permeability nanocrystalline core material / <br> / <br> Improved isolation through plastic case and winding spacer / <br> / <br>  High and stable inductance values at high temperatures / <br> / <br> High rated currents / <br> / <br> Broadband suppression / <br> / <br>  Small size / <br> / <br> Frequency range: 1 kHz-300 MHz / <br> / <br> Operating temperature: -40°C to +125°C / <br> / <br> / <br><b> Applications / <br> / <br></b> Power electronics / <br> / <br>  Power line in- and output filter / <br> / <br>  Radio interference suppression in motors / <br> / <br> Suppression for common mode noise / <br> / <br> / <br> / <br><a href="http://katalog.we-online.de/media/images/eisos/IndCMBNC_pf2.jpg" title="Enlarge picture"> / <img src="http://katalog.we-online.de/media/thumbs2/eisos/thb_IndCMBNC_pf2.jpg" width="320"></a><p> / Details see: <a href="http://katalog.we-online.de/en/pbs/WE-CMBNC/">http://katalog.we-online.de/en/pbs/WE-CMBNC/</a><p> / Updated by  Dan Xu 2014-06-23<br> / 2014 (C) Wurth Elektronik
MANUFACTURER: Würth Elektronik eiSos GmbH; CREATED-BY: Christin Otto; COMPANY-URL: http://www.we-online.de; CREATED-DATE: NOV 2013; DATASHEET-URL: http://katalog.we-online.de/pm/datasheet/7448040707.pdf
footprint WE-CMBNC_L(WITHOUT-PINS)_7448040707
pins: 1, 2 4, 3, 4 2